# Altium footprint library PcbLib_buzzer.PcbLib: 1 footprints
Each footprint in its own frame and in the unit in brackets; x right, y up, seen from the top. Pads: shape width x height; smd on the part's side, far side on the other; paste and mask are expansions set on the pad; w line width, h text height; cw(c..) or ccw(c..) is an arc to the next point about the centre after c.
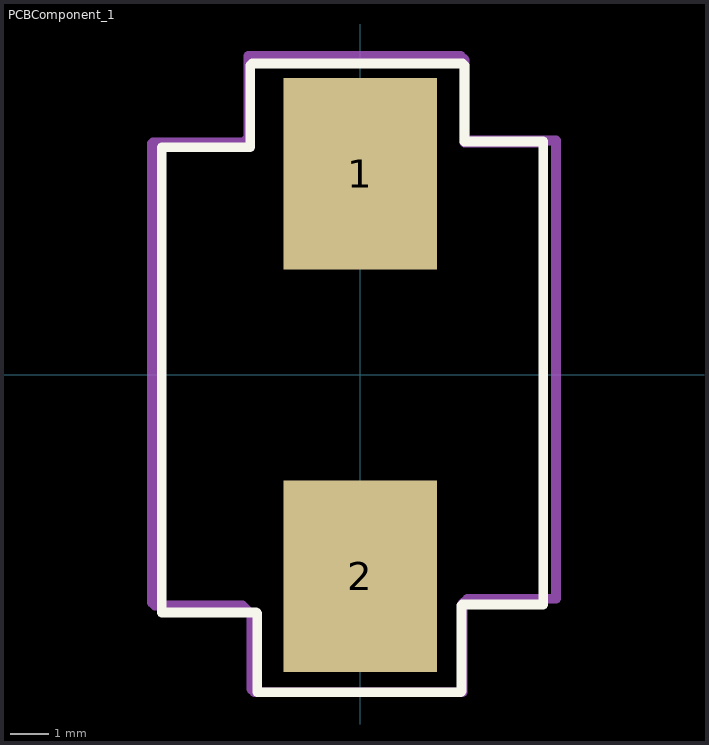
[diagram p0: the footprint, top view; thin cyan lines are the x and y axes]

## PCBComponent_1 [mm]
pads (2):
  rect 4x5 smd: 1(0,5.25) 2(0,-5.25)
Top Overlay:
  lines w0.254: -5.182,-6.198 -5.182,5.944 -2.87,5.944 -2.87,8.077 -2.819,8.128 -2.057,8.128 2.667,8.128 2.718,8.077 2.718,6.096 4.775,6.096 4.775,-5.994 2.667,-5.994 2.642,-6.02 2.642,-8.255 2.616,-8.28 -2.692,-8.28 -2.692,-6.223 -2.718,-6.198 -5.182,-6.198
Mechanical29:
  lines w0.254: 2.718,6.096 2.743,6.121 5.105,6.121 5.105,-5.842 2.794,-5.842 2.667,-5.969 2.667,-8.28 -2.769,-8.28 -2.845,-8.204 -2.845,-6.248 -3.073,-6.02 -5.359,-6.02 -5.436,-5.944 -5.436,6.045 -5.41,6.071 -3.048,6.071 -2.921,6.198 -2.921,8.331 2.616,8.331 2.718,8.23 2.718,6.096 ; 2.718,6.096 4.801,6.096 4.801,6.071 2.718,6.071 2.718,6.096
3D body "CUI_DEVICES_CMT-1271-88-SMT-TR.step": height 7.15, standoff 0.05, extent -6.552,-6.823 6.248,7.077